# EAGLE library part TPIC6B595N_TPIC6B595N (library breakout_v0.4)
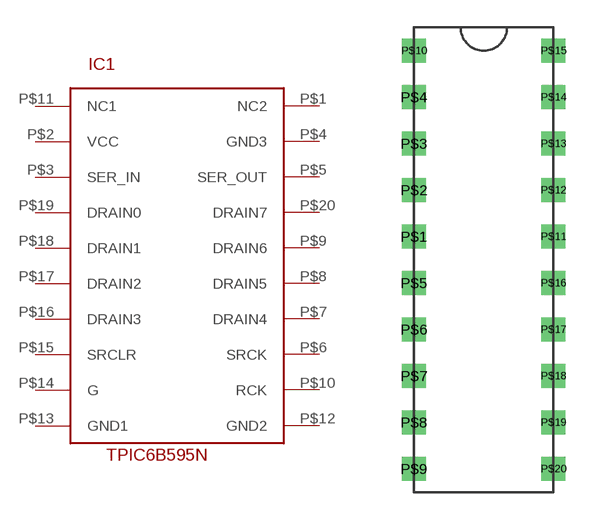
[diagram p2: symbol with the pads of TPIC6B595N_PDIP-20; footprint TPIC6B595N_PDIP-20]

Designator prefix -

## TPIC6B595N_TPIC6B595NPDIP-20  [TPIC6B595N_PDIP-20]
P$1  NC2
P$2  VCC
P$3  SER_IN
P$4  GND3
P$5  SER_OUT
P$6  SRCK
P$7  DRAIN4
P$8  DRAIN5
P$9  DRAIN6
P$10  RCK
P$11  NC1
P$12  GND2
P$13  GND1
P$14  G
P$15  SRCLR
P$16  DRAIN3
P$17  DRAIN2
P$18  DRAIN1
P$19  DRAIN0
P$20  DRAIN7

## Footprint TPIC6B595N_PDIP-20 (pad centres in mm)
drill 0.8 square: P$1 -3.81,1.27; P$2 -3.81,3.81; P$3 -3.81,6.35; P$4 -3.81,8.89; P$5 -3.81,-1.27; P$6 -3.81,-3.81; P$7 -3.81,-6.35; P$8 -3.81,-8.89; P$9 -3.81,-11.43; P$10 -3.81,11.43; P$11 3.81,1.27; P$12 3.81,3.81; P$13 3.81,6.35; P$14 3.81,8.89; P$15 3.81,11.43; P$16 3.81,-1.27; P$17 3.81,-3.81; P$18 3.81,-6.35; P$19 3.81,-8.89; P$20 3.81,-11.43